# Altium integrated library LCDs.IntLib: 1 symbol
Pins are listed as number, name and electrical type; pins without a type are passive.

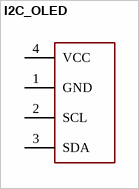
[diagram p0: symbol I2C_OLED]

## I2C_OLED
designator ?
footprint I2C_OLED_PACKAGE
pins: 1 GND, 2 SCL, 3 SDA, 4 VCC